# Altium schematic symbol library Header 2X2.SchLib: 1 symbol
Pins are listed as number, name and electrical type; pins without a type are passive.

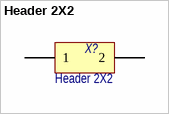
[diagram p0: symbol Header 2X2]

## Header 2X2
designator X?
Header, 2-Pin, Dual row; Потребление, Вт: 0,0; Назначение: Header, 2-Pin, Dual row; Наименование: Header 2X2
footprint PLD2-2
pins: 1, 2